# Altium schematic symbol library CH sch.SchLib: 197 symbols (part 4 of 4)
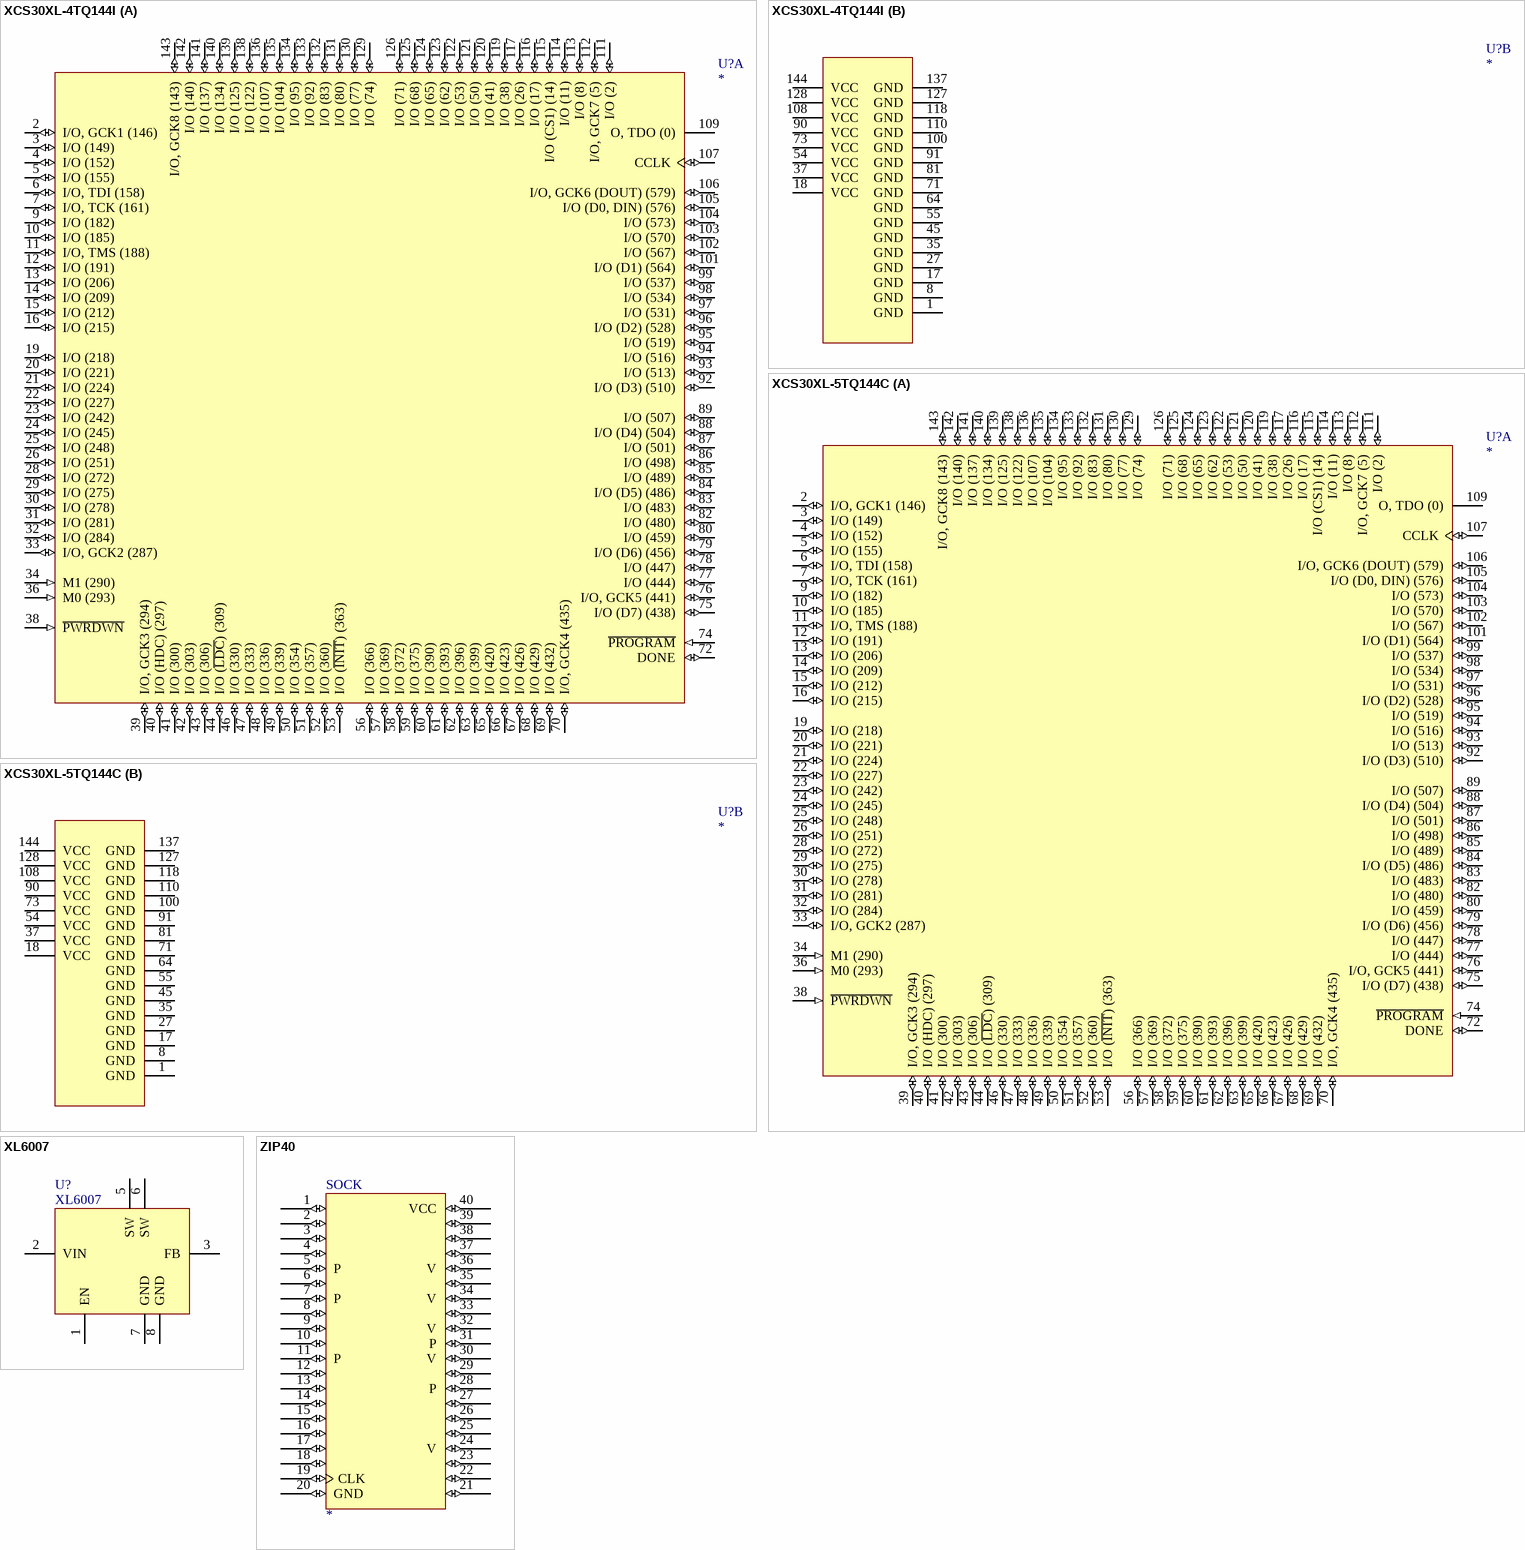
[diagram p30: symbols XCS30XL-4TQ144I to ZIP40]

## ZIP40
designator SOCK
footprint ZIP-40
pins: 1 (io), 2 (io), 3 (io), 4 (io), 5 P (io), 6 (io), 7 P (io), 8 (io), 9 (io), 10 (io), 11 P (io), 12 (io), 13 (io), 14 (io), 15 (io), 16 (io), 17 (io), 18 (io), 19 CLK (io), 20 GND (io), 21 (io), 22 (io), 23 (io), 24 V (io), 25 (io), 26 (io), 27 (io), 28 P (io), 29 (io), 30 V (io), 31 P (io), 32 V (io), 33 (io), 34 V (io), 35 (io), 36 V (io), 37 (io), 38 (io), 39 (io), 40 VCC (io)
2 alternate drawings of the same symbol